# EAGLE library part DRV8838 (library SparkFun-PowerIC)
TI DRV8838 H-Bridge motor driver
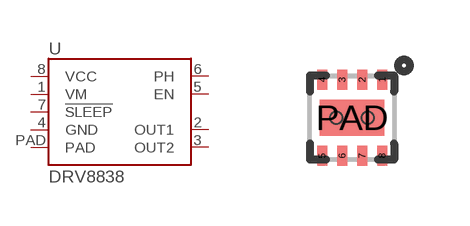
[diagram p44: symbol with the pads of S-PWSON-N8; footprint S-PWSON-N8]

Designator prefix U

## DRV8838PWSON  [S-PWSON-N8]
1  VM  pwr
2  OUT1  out
3  OUT2  out
4  GND  pwr
5  EN  in
6  PH  in
7  !SLEEP  in
8  VCC  pwr
PAD  PAD  pwr

## Footprint S-PWSON-N8 (pad centres in mm)
Description: Footprint created for the TI DRV8838 H-bridge motor driver
smd 0.25 x 0.5: 1 0.75,0.95; 2 0.25,0.95; 3 -0.25,0.95; 4 -0.75,0.95; 5 -0.75,-0.95; 6 -0.25,-0.95; 7 0.25,-0.95; 8 0.75,-0.95
smd 1.6 x 0.9: PAD 0,0
hole 0.3 at -0.4,0
hole 0.3 at 0.4,0